# Altium footprint library Conn_Molex_22-05-7065_eec_0.PcbLib: 1 footprints
Each footprint in its own frame and in the unit in brackets; x right, y up, seen from the top. Pads: shape width x height; smd on the part's side, far side on the other; paste and mask are expansions set on the pad; w line width, h text height; cw(c..) or ccw(c..) is an arc to the next point about the centre after c.
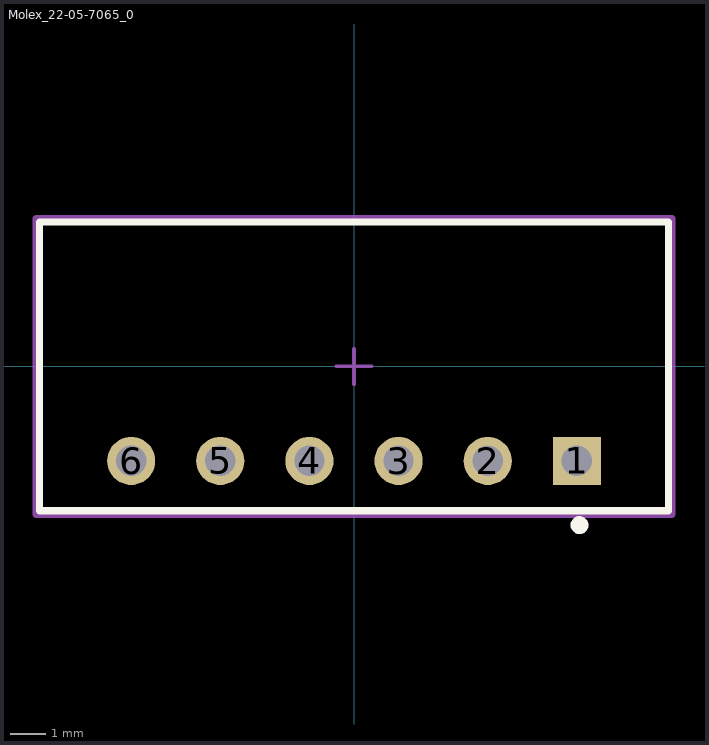
[diagram p0: the footprint, top view; thin cyan lines are the x and y axes]

## Molex_22-05-7065_0 [mm]
pads (6):
  rect 1.35x1.35 hole 0.85 paste-1000 mask+0: 1(6.25,-2.65)
  round 1.35 hole 0.85 paste-1000 mask+0: 2(3.75,-2.65) 3(1.25,-2.65) 4(-1.25,-2.65) 5(-3.75,-2.65) 6(-6.25,-2.65)
Top Overlay:
  circle w0.25: c6.325,-4.45 r0.125
  lines w0.2: -8.825,-4.05 -8.825,4.05 8.825,4.05 8.825,-4.05 -8.825,-4.05
Mechanical 10:
  lines w0.2: -8.925,-4.15 -8.925,4.15 8.925,4.15 8.925,-4.15 -8.925,-4.15
  text ".Designator" at 0,0 h1
Mechanical 12:
  lines w0.15: -8.825,-4.05 -8.825,4.05 8.825,4.05 8.825,-4.05 -8.825,-4.05
Mechanical 15:
  lines w0.1: -0.5,0 0.5,0 ; 0,-0.5 0,0.5
  lines w0.2: -8.925,-4.15 -8.925,4.15 8.925,4.15 8.925,-4.15 -8.925,-4.15
3D body "Conn_Molex_22-05-7065_eec.STEP": height 0.25, standoff 0, extent -8.925,-4.15 8.925,4.15